# Altium schematic symbol library ThermalCamSchLib.SchLib: 3 symbols
Pins are listed as number, name and electrical type; pins without a type are passive.

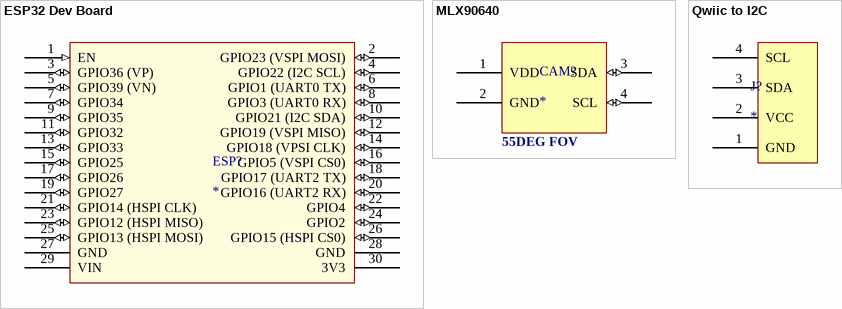
[diagram p0: symbols ESP32 Dev Board to Qwiic to I2C]

## ESP32 Dev Board
designator ESP?
pins: 1 EN (in), 2 GPIO23 (VSPI MOSI) (io), 3 GPIO36 (VP) (io), 4 GPIO22 (I2C SCL) (io), 5 GPIO39 (VN) (io), 6 GPIO1 (UART0 TX) (io), 7 GPIO34 (io), 8 GPIO3 (UART0 RX) (io), 9 GPIO35 (io), 10 GPIO21 (I2C SDA) (io), 11 GPIO32 (io), 12 GPIO19 (VSPI MISO) (io), 13 GPIO33 (io), 14 GPIO18 (VPSI CLK) (io), 15 GPIO25 (io), 16 GPIO5 (VSPI CS0) (io), 17 GPIO26 (io), 18 GPIO17 (UART2 TX) (io), 19 GPIO27 (io), 20 GPIO16 (UART2 RX) (io), 21 GPIO14 (HSPI CLK) (io), 22 GPIO4 (io), 23 GPIO12 (HSPI MISO) (io), 24 GPIO2 (io), 25 GPIO13 (HSPI MOSI) (io), 26 GPIO15 (HSPI CS0) (io), 27 GND, 28 GND, 29 VIN, 30 3V3

## MLX90640
designator CAM?
pins: 1 VDD, 2 GND, 3 SDA (io), 4 SCL (io)
text: 55DEG FOV

## Qwiic to I2C
designator J?
pins: 1 GND, 2 VCC, 3 SDA, 4 SCL